# Altium footprint library Footprints.PcbLib: 1 footprints
Each footprint in its own frame and in the unit in brackets; x right, y up, seen from the top. Pads: shape width x height; smd on the part's side, far side on the other; paste and mask are expansions set on the pad; w line width, h text height; cw(c..) or ccw(c..) is an arc to the next point about the centre after c.
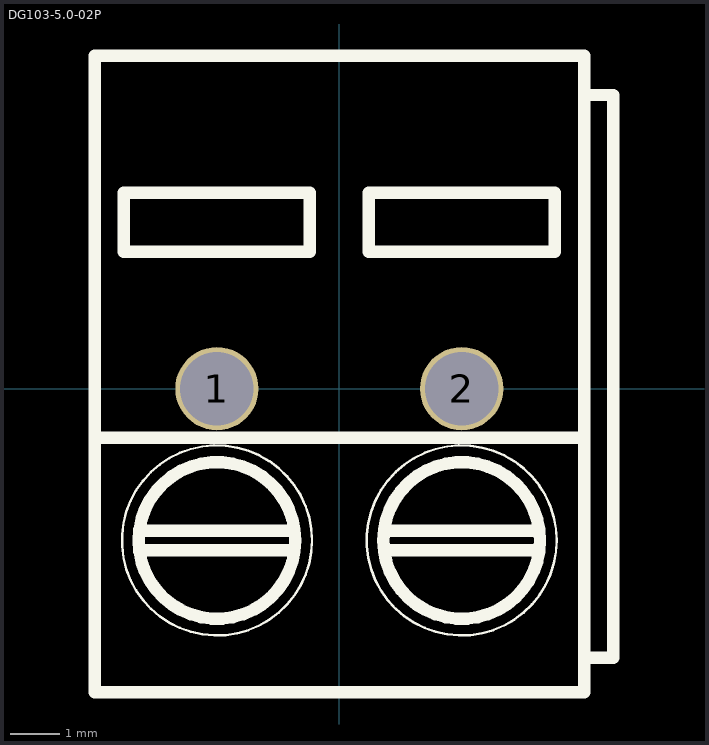
[diagram p0: the footprint, top view; thin cyan lines are the x and y axes]

## DG103-5.0-02P [mm] "60 degree screw terminal"
height 15.5
pads (2):
  round 1.7 hole 1.5: 1(-2.5,0) 2(2.5,0)
Top Overlay:
  circle w0.05: c2.5,-3.1 r1.942
  circle w0.05: c-2.5,-3.1 r1.942
  circle w0.254: c2.5,-3.1 r1.6
  circle w0.254: c-2.5,-3.1 r1.6
  lines w0.254: -5,-1 5,-1 ; -4,-3.3 -1,-3.3 ; -4,-2.9 -1,-2.9 ; 1,-3.3 4,-3.3 ; 1,-2.9 4,-2.9 ; 5,-5.5 5.6,-5.5 5.6,6 5,6 ; -5,-6.2 -5,6.8 5,6.8 5,-6.2 0,-6.2 -5,-6.2 ; -4.4,2.8 -4.4,4 -2.5,4 -0.6,4 -0.6,2.8 -4.4,2.8 ; 0.6,2.8 0.6,4 2.5,4 4.4,4 4.4,2.8 0.6,2.8